# EAGLE library part LMV358M-NOPB (library analog-devices)
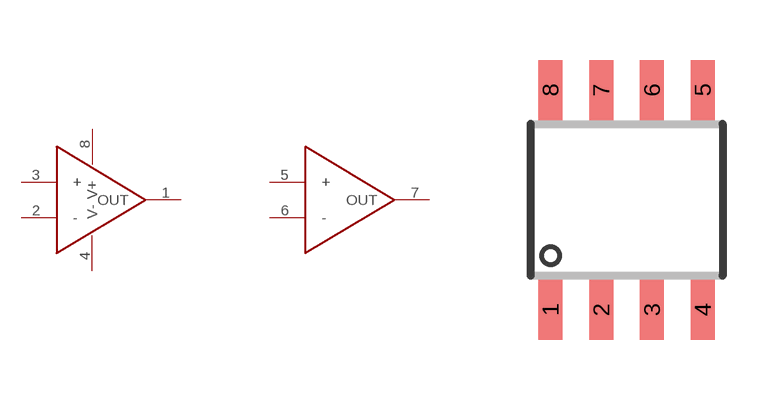
[diagram p2: symbol with the pads of SOIC8; footprint SOIC8]

Designator prefix -; gates G$1=OPV_VG G$2=OPV

## LMV358M-NOPB  [SOIC8]
1  G$1:OUT
2  G$1:-
3  G$1:+
4  G$1:V-
5  G$2:+
6  G$2:-
7  G$2:OUT
8  G$1:V+

## Footprint SOIC8 (pad centres in mm)
smd 0.6 x 1.5: 1 -2.005,-2.75; 2 -0.735,-2.75; 3 0.535,-2.75; 4 1.805,-2.75; 5 1.805,2.75; 6 0.535,2.75; 7 -0.735,2.75; 8 -2.005,2.75